# Altium schematic symbol library Switch.SchLib: 22 symbols
Pins are listed as number, name and electrical type; pins without a type are passive.

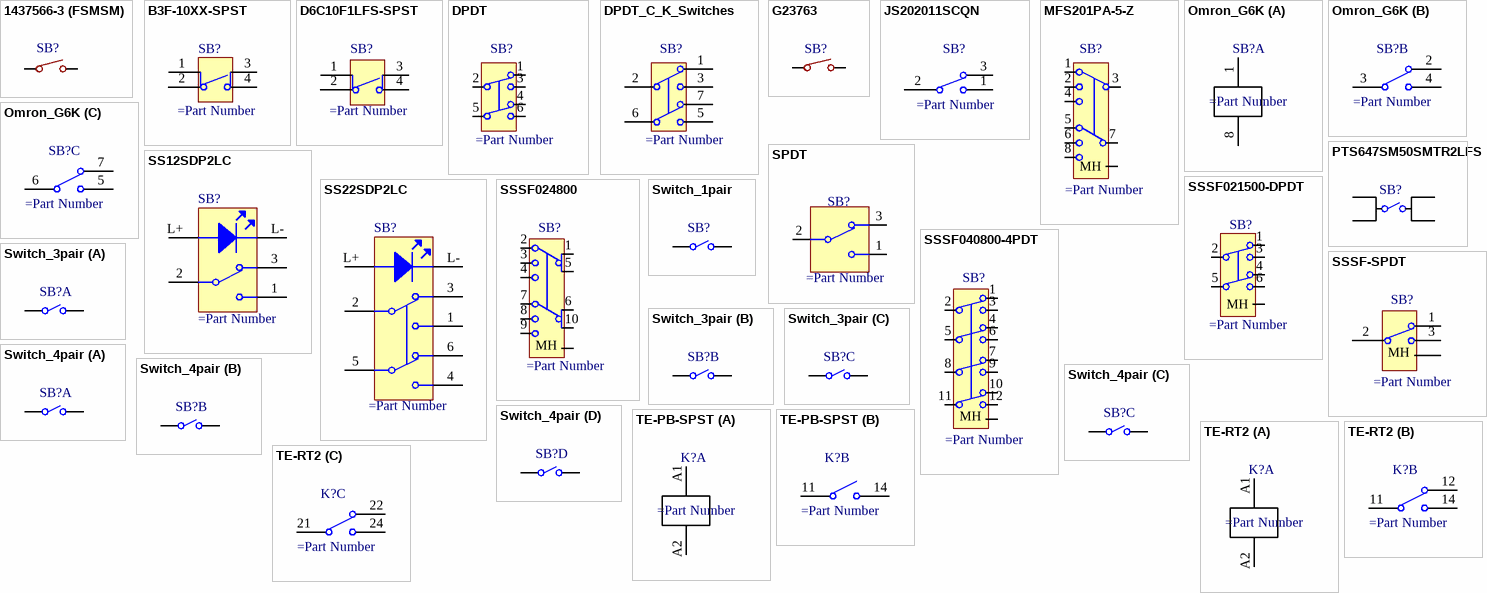
[diagram p0: symbols 1437566-3 (FSMSM) to TE-RT2]

## 1437566-3 (FSMSM)
designator SB?  (value not drawn)
SWITCH TACTILE SPST-NO 0.05A 24V; Manufacturer: TE Connectivity ALCOSWITCH Switches; Switch Function: OFF - ON; Mechanical Life: 20,000 Cycles; Supplier 1: Digi-Key; Supplier Part Number 1: 450-1140-ND; ComponentLink1Description: HelpURL; ComponentLink1URL: https://www.te.com/commerce/DocumentDelivery/DDEController?Action=srchrtrv&DocNm=1437566-3&DocType=Customer+Drawing&DocLang=English
footprint FSMSM
pins: 1, 2

## B3F-10XX-SPST
designator SB?
pins: 1, 2, 3, 4

## D6C10F1LFS-SPST
designator SB?
pins: 1, 2, 3, 4

## DPDT
designator SB?
pins: 1, 2, 3, 4, 5, 6

## DPDT_C_K_Switches
designator SB?
pins: 1, 2, 3, 5, 6, 7

## G23763
designator SB?  (value not drawn)
Ultra Miniature SMD Tactile Push Button Switch, 3mm x 4mm; Manufacturer: TE Connectivity ALCOSWITCH Switches; Switch Function: OFF - ON; Mechanical Life: 20,000 Cycles
footprint SMD_Button
pins: 1, 2

## JS202011SCQN
designator SB?
pins: 1, 2, 3

## MFS201PA-5-Z
designator SB?
pins: 1, 2, 3, 4, 5, 6, 7, 8, MH

## Omron_G6K
designator SB?
part A pins: 1, 8
part B pins: 2, 3, 4
part C pins: 5, 6, 7

## PTS647SM50SMTR2LFS
designator SB?
pins: 1, 2, 3, 4

## SPDT
designator SB?
pins: 1, 2, 3

## SS12SDP2LC
designator SB?
pins: 1, 2, 3, L+, L-

## SS22SDP2LC
designator SB?
pins: 1, 2, 3, 4, 5, 6, L+, L-

## SSSF021500-DPDT
designator SB?
pins: 1, 2, 3, 4, 5, 6, MH

## SSSF024800
designator SB?
pins: 1, 2, 3, 4, 5, 6, 7, 8, 9, 10, MH

## SSSF040800-4PDT
designator SB?
pins: 1, 2, 3, 4, 5, 6, 7, 8, 9, 10, 11, 12, MH

## SSSF-SPDT
designator SB?
pins: 1, 2, 3, MH

## Switch_1pair
designator SB?  (value not drawn)
pins: 1, 2

## Switch_3pair
designator SB?  (value not drawn)
part A pins: 1, 2
part B pins: 3, 4
part C pins: 5, 6

## Switch_4pair
designator SB?  (value not drawn)
part A pins: 1, 2
part B pins: 3, 4
part C pins: 5, 6
part D pins: 7, 8

## TE-PB-SPST
designator K?
part A pins: A1, A2
part B pins: 11, 14

## TE-RT2
designator K?
part A pins: A1, A2
part B pins: 11, 12, 14
part C pins: 21, 22, 24